# EAGLE library part DAC7513 (library synth_design)
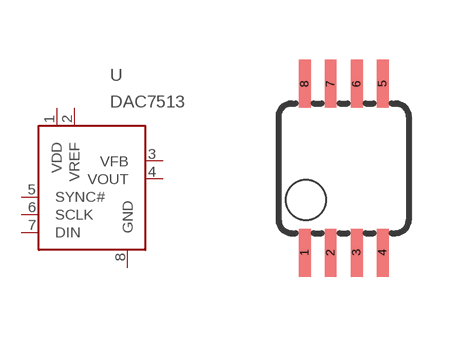
[diagram p0: symbol with the pads of MSOP08; footprint MSOP08]

Designator prefix -

## DAC7513  [MSOP08]
1  VDD
2  VREF
3  VFB
4  VOUT
5  SYNC#
6  SCLK
7  DIN
8  GND

## Footprint MSOP08 (pad centres in mm)
Mini Small Outline Package
smd 0.3 x 1.2: 1 -0.976,-2.113; 2 -0.326,-2.113; 3 0.324,-2.113; 4 0.974,-2.113; 5 0.974,2.112; 6 0.324,2.112; 7 -0.326,2.112; 8 -0.976,2.112